# EAGLE library part CPL-CON-HEADER-0.1IN-8P-M (library TinWhiskers)
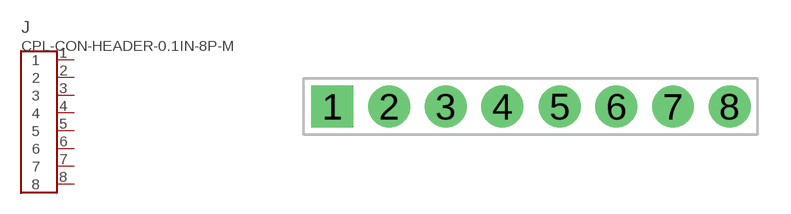
[diagram p4: symbol with the pads of CON-HDR-8POS-MALE; footprint CON-HDR-8POS-MALE]

Designator prefix J

## CPL-CON-HEADER-0.1IN-8P-M  [CON-HDR-8POS-MALE]
1  1  pas
2  2  pas
3  3  pas
4  4  pas
5  5  pas
6  6  pas
7  7  pas
8  8  pas

## Footprint CON-HDR-8POS-MALE (pad centres in mm)
Connector: 0.1" Pitch, Header, Male; Datasheet: http://www.mouser.com/ds/2/418/NG_CD_825433_S_baseFilename-673623.pdf
drill 1.25 square: 1 -8.89,0
drill 1.25: 2 -6.34,0; 3 -3.8,0; 4 -1.26,0; 5 1.31,0; 6 3.85,0; 7 6.39,0; 8 8.93,0